# Altium schematic symbol library 61201021621.SchLib: 1 symbol
Pins are listed as number, name and electrical type; pins without a type are passive.

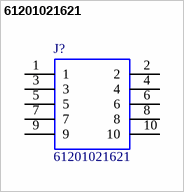
[diagram p0: symbol 61201021621]

## 61201021621
designator J?
10 way 2.54mm male box Header Wurth Elektronik 612 Series, 2.54mm Pitch 10 Way 2 Row Straight PCB Header, Solder Termination, 3A; Geometry.Height: 9mm; Manufacturer_Name: Wurth Elektronik; Manufacturer_Part_Number: 61201021621; RS Part Number: 1216784; RS Price/Stock: http://uk.rs-online.com/web/p/products/1216784; Arrow Part Number: 61201021621; Arrow Price/Stock: http://uk.rs-online.com/web/p/products/1216784; Datasheet Link: http://docs-europe.electrocomponents.com/webdocs/13f3/0900766b813f3580.pdf
footprint SHDR10W64P254X254_2X5_2036X885X900P
pins: 1, 2, 3, 4, 5, 6, 7, 8, 9, 10